# Altium integrated library RS232 adapter.IntLib: 12 symbols
Pins are listed as number, name and electrical type; pins without a type are passive.

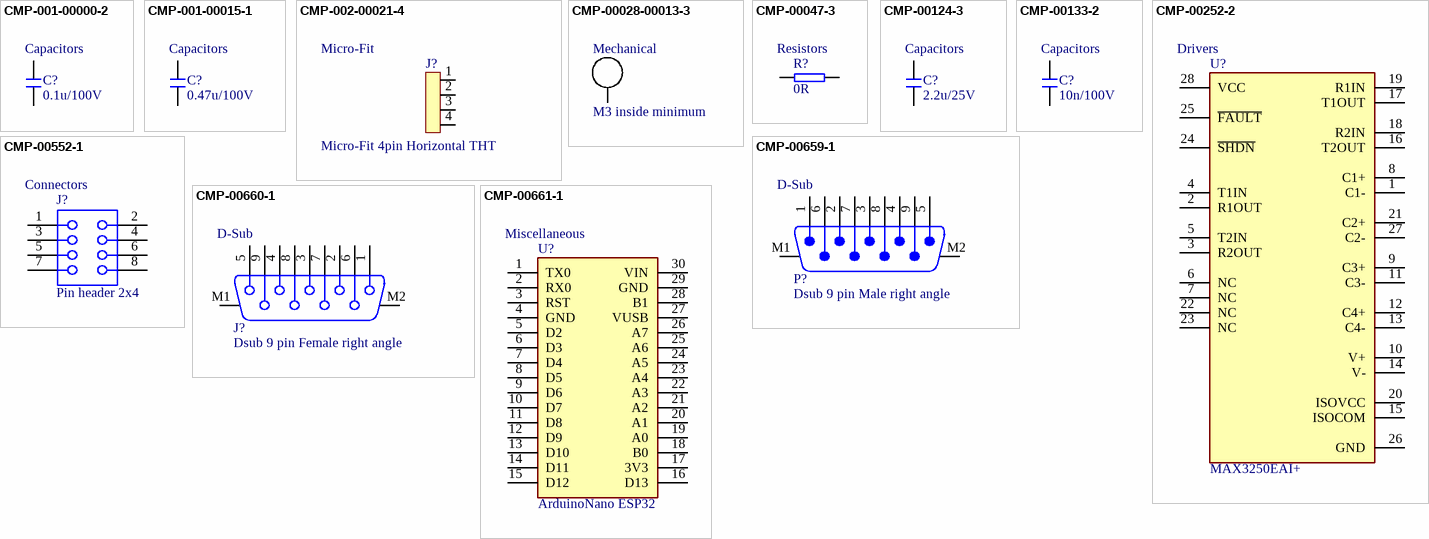
[diagram p0: symbols CMP-001-00000-2 to CMP-00661-1]

## CMP-001-00000-2
designator C?, comment 0.1u/100V  Component Type: Capacitors
0.1μF, 100V, 0603; Manufacturer: KYOCERA AVX; Manufacturer Part Number: 06031C104KAT2A; Tolerance: 10%; Value: 100nF; Dielectric: X7R; Case/Package: 0603; Voltage: 100V
footprint C0603 (Chip Capacitor, 2-Leads, Body 1.60x0.80mm, IPC Medium Density)
simulation model C_Capacitor_Default
pins: 1, 2

## CMP-001-00015-1
designator C?, comment 0.47u/100V  Component Type: Capacitors
0.47uF, 100V, 0805; Manufacturer: Murata; Manufacturer Part Number: GRM21BR72A474KA73K; Value: 470nF; Tolerance: 10%; Dielectric: Ceramic; Case/Package: 0805; Voltage: 100V
footprint C0805 (Chip Capacitor, 2-Leads, Body 2.00x1.20mm, IPC Medium Density)
pins: 1, 2

## CMP-002-00021-4
designator J?, comment Micro-Fit 4pin Horizontal THT  Component Type: Micro-Fit
Rectangular Power Connector, 4 Contact(s), Male, Solder Terminal, Plug; Part name: 43045-0400; Manufacturer: Molex; Current Rating: 8.5A; Mounting Angle: Right Angle; Number of Positions: 4; Voltage Rating: 250V; Number of Rows: 2; Mounting Style: Through Hole; Contact Plating: Tin; Manufacturer Part Number: 43045-0400
footprint 43045-0400
pins: 1, 2, 3, 4

## CMP-00028-00013-3
designator B?, comment M3 inside minimum  Component Type: Mechanical  (no BOM)
smaller M3 mounting holde for inside the PCB. should not be used for nuts(tools will not fit); Case/Package: M3
footprint M3 minimum (Mounting hole for M3 bolts not reccomended for nuts(tools will not fit))
pins: 1

## CMP-00047-3
designator R?, comment 0R  Component Type: Resistors
Resistor 0R, 0603, 1%, SMD; Manufacturer: Yageo Group; Manufacturer Part Number: RC0603JR-070RL; Power: 100mW; Voltage: 75V; Value: 0; Tolerance: 1%; Case/Package: 0603
footprint R0603 (Resistor 0603)
pins: 1 2, 2

## CMP-00124-3
designator C?, comment 2.2u/25V  Component Type: Capacitors
2.2µF, 25V, 0805; Manufacturer: Yageo Group; Manufacturer Part Number: CC0805KKX7R8BB225; Tolerance: 10%; Dielectric: X7R; Voltage: 25V; Case/Package: 0805; Value: 2.2µF
footprint C0805 (Chip Capacitor, 2-Leads, Body 2.00x1.20mm, IPC Medium Density)
pins: 1, 2

## CMP-00133-2
designator C?, comment 10n/100V  Component Type: Capacitors
10nF, 100V, 0603; Manufacturer: KYOCERA AVX; Manufacturer Part Number: 06031C103KAT2A; Tolerance: 10%; Dielectric: X7R; Case/Package: 0603; Voltage: 100V; Value: 10nF
footprint C0603 (Chip Capacitor, 2-Leads, Body 1.60x0.80mm, IPC Medium Density)
simulation model C_Capacitor_Default
pins: 1, 2

## CMP-00252-2
designator U?, comment MAX3250EAI+  Component Type: Drivers
isolated Line Transceiver, 2 Func, 2 Driver, 2 Rcvr, BICMOS, PDSO28; Manufacturer: Maxim; Min Supply Voltage: 3V; Max Supply Current: 35mA; Max Supply Voltage: 5.5V; Case/Package: SSOP 28; Min Operating Temperature: -40°C; Part name: MAX3250EAI+; Voltage Rating: 5.5V; Current Rating: 35mA; Manufacturer Part Number: MAX3250EAI+
footprint SSOP-28P, no-thermal (Form TI)
pins: 1 C1-, 2 R1OUT, 3 R2OUT, 4 T1IN, 5 T2IN, 6 NC, 7 NC, 8 C1+, 9 C3+, 10 V+, 11 C3-, 12 C4+, 13 C4-, 14 V-, 15 ISOCOM, 16 T2OUT, 17 T1OUT, 18 R2IN, 19 R1IN, 20 ISOVCC, 21 C2+, 22 NC, 23 NC, 24 ~{SHDN}, 25 ~{FAULT}, 26 GND, 27 C2-, 28 VCC

## CMP-00552-1
designator J?, comment Pin header 2x4  Component Type: Connectors
Board Connector, 8 Contact(s), 2 Row(s), Female, Straight, 0.1 inch Pitch, Solder Terminal, Locking, Black Insulator, Socket; Manufacturer: Wurth Elektronik; Part name: 61300821821; Current Rating: 3A; Number of Positions: 8; Mounting Angle: Vertical; Voltage Rating: 250V; Mounting Style: Through Hole; Contact Plating: Gold; Number of Rows: 2; Manufacturer Part Number: 61300821821
footprint 61300821821 (Socket Header, Pitch 2.54 mm, THT, Vertical, dual row, 8p)
pins: 1, 2, 3, 4, 5, 6, 7, 8

## CMP-00659-1
designator P?, comment Dsub 9 pin Male right angle  Component Type: D-Sub
9 Way Right Angle Through Hole Pcb D-sub Connector Plug, 2.77MM, 2.84MM Pitch; Manufacturer: Wurth Eletronik; Part name: 618009231221; Manufacturer: Wurth Elektronik; Current Rating: 3A; Voltage Rating: 125V; Number of Positions: 9; Number of Rows: 2; Contact Plating: Gold; Mounting Style: Through Hole; Mounting Angle: Right Angle; Manufacturer Part Number: 618009231221
footprint 618009231221 (9 pins, right angled, 8.08mm, with hex screw)
pins: 1, 2, 3, 4, 5, 6, 7, 8, 9, M1, M2

## CMP-00660-1
designator J?, comment Dsub 9 pin Female right angle  Component Type: D-Sub
9 Way Right Angle Through Hole Pcb D-sub Connector Socket, 2.77MM, 2.84MM Pitch; Manufacturer: Wurth elektronik; Part name: 618009231321; Voltage Rating: 125V; Current Rating: 3A; Number of Positions: 9; Number of Rows: 2; Contact Plating: Gold; Mounting Angle: Right Angle; Mounting Style: Through Hole; Manufacturer: Wurth Elektronik; Manufacturer Part Number: 618009231321
footprint 618009231321 (9 pins, right angled, 10.3mm, with hex screw)
pins: 1, 2, 3, 4, 5, 6, 7, 8, 9, M1, M2

## CMP-00661-1
designator U?, comment ArduinoNano ESP32  Component Type: Miscellaneous
Arduino nano development board; Manufacturer Part Number: ABX00083; Current Rating: 25mA; Voltage Rating: 5V; Manufacturer: Arduino; Part name: Nano ESP32; Case/Package: Nano
footprint Copy of New footprint 1
pins: 1 TX0, 2 RX0, 3 RST, 4 GND, 5 D2, 6 D3, 7 D4, 8 D5, 9 D6, 10 D7, 11 D8, 12 D9, 13 D10, 14 D11, 15 D12, 16 D13, 17 3V3, 18 B0, 19 A0, 20 A1, 21 A2, 22 A3, 23 A4, 24 A5, 25 A6, 26 A7, 27 VUSB, 28 B1, 29 GND, 30 VIN